# EAGLE library part MIC4104 (library ic-power)
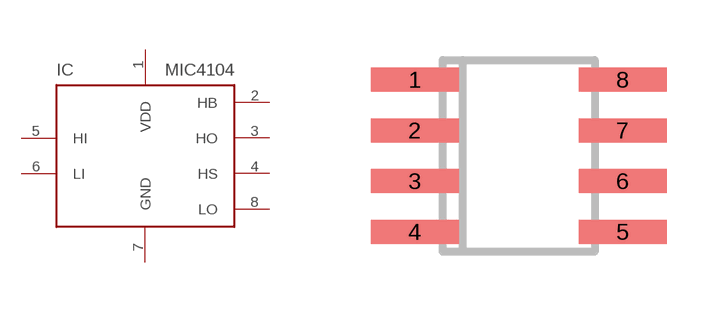
[diagram p11: symbol with the pads of SO-08; footprint SO-08]

Designator prefix IC

## MIC4104  [SO-08]
1  VDD  pas
2  HB  pas
3  HO  pas
4  HS  pas
5  HI  pas
6  LI  pas
7  GND  pas
8  LO  pas

## Footprint SO-08 (pad centres in mm)
Small Outline Narrow Plastic Gull Wing 150-mil body, package type SN
smd 2.2 x 0.6: 1 -2.6,1.905; 2 -2.6,0.635; 3 -2.6,-0.635; 4 -2.6,-1.905; 5 2.6,-1.905; 6 2.6,-0.635; 7 2.6,0.635; 8 2.6,1.905